# EAGLE library part ZIF40 (library cTechnologies_connectors)
Flexible Printed Circuit & Flexible Flat Cable ZIF Connectors 0.5 mm Pitch, 2.55 mm above the board Source: http://www.hirose.co.jp/cataloge_hp/e58618038.pdf
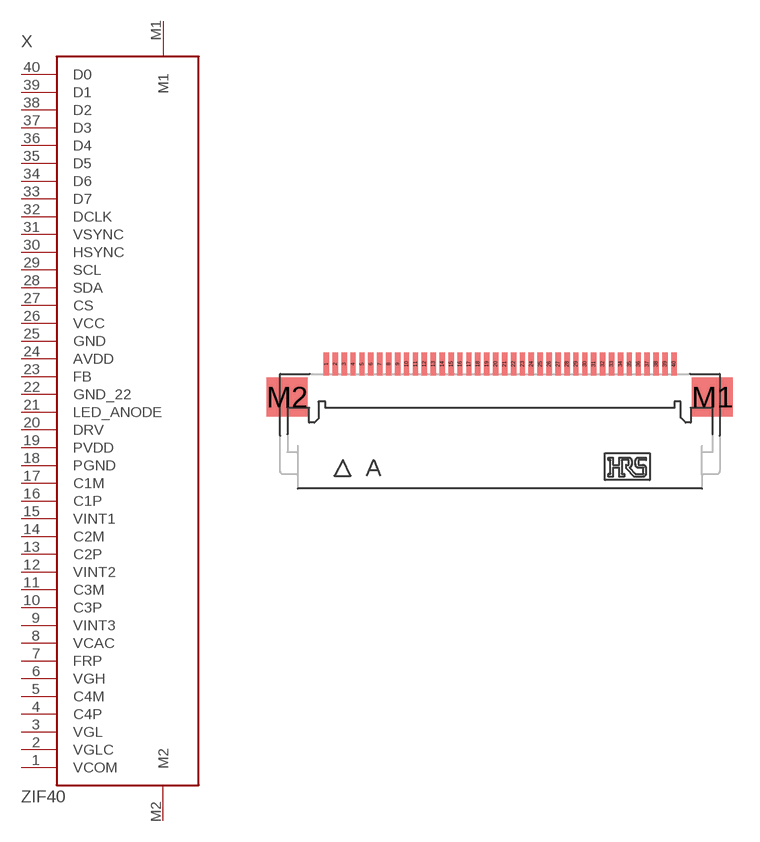
[diagram p1: symbol with the pads of ZIF40; footprint ZIF40]

Designator prefix X

## ZIF40  [ZIF40]
1  VCOM  in
2  VGLC  in
3  VGL
4  C4P
5  C4M
6  VGH
7  FRP
8  VCAC
9  VINT3
10  C3P  in
11  C3M  in
12  VINT2  in
13  C2P  in
14  C2M  in
15  VINT1  in
16  C1P  in
17  C1M  in
18  PGND  in
19  PVDD  in
20  DRV  in
21  LED_ANODE  in
22  GND_22  in
23  FB  in
24  AVDD  in
25  GND  in
26  VCC  in
27  CS  in
28  SDA  in
29  SCL  in
30  HSYNC  in
31  VSYNC  in
32  DCLK
33  D7
34  D6
35  D5
36  D4
37  D3
38  D2
39  D1
40  D0
M1  M1
M2  M2

## Footprint ZIF40 (pad centres in mm)
Flexible Printed Circuit & Flexible Flat Cable ZIF Connectors 0.5 mm Pitch, 2.55 mm above the board Source: http://www.hirose.co.jp/cataloge_hp/e58618038.pdf
smd 0.3 x 1.3: 1 -12.25,3.5; 2 -11.75,3.5; 3 -11.25,3.5; 4 -10.75,3.5; 5 -10.25,3.5; 6 -9.75,3.5; 7 -9.25,3.5; 8 -8.75,3.5; 9 -8.25,3.5; 10 -7.75,3.5; 11 -7.25,3.5; 12 -6.75,3.5; 13 -6.25,3.5; 14 -5.75,3.5; 15 -5.25,3.5; 16 -4.75,3.5; 17 -4.25,3.5; 18 -3.75,3.5; 19 -3.25,3.5; 20 -2.75,3.5; 21 -2.25,3.5; 22 -1.75,3.5; 23 -1.25,3.5; 24 -0.75,3.5; 25 -0.25,3.5; 26 0.25,3.5; 27 0.75,3.5; 28 1.25,3.5; 29 1.75,3.5; 30 2.25,3.5; 31 2.75,3.5; 32 3.25,3.5; 33 3.75,3.5; 34 4.25,3.5; 35 4.75,3.5; 36 5.25,3.5; 37 5.75,3.5; 38 6.25,3.5; 39 6.75,3.5; 40 7.25,3.5
smd 2.3 x 2.2: M1 9.4,1.65; M2 -14.45,1.65